# EAGLE library part IMU (library custom)
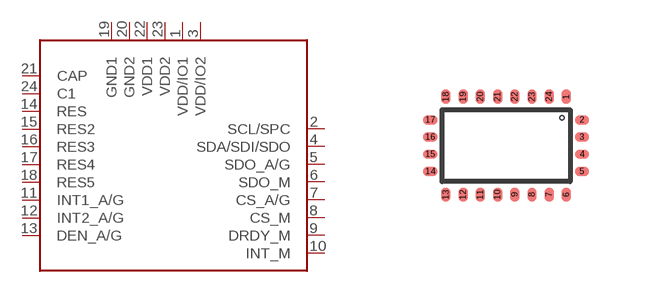
[diagram p0: symbol with the pads of 9AXIS_IMU; footprint 9AXIS_IMU]

Designator prefix IMU

## IMU (CREATOR: Harshini R; DIST: Digikey; DISTPN: 497-14946-1-ND)  [9AXIS_IMU]
1  VDD/IO1
2  SCL/SPC  pas
3  VDD/IO2
4  SDA/SDI/SDO  pas
5  SDO_A/G  out
6  SDO_M  out
7  CS_A/G  in
8  CS_M  in
9  DRDY_M  pas
10  INT_M  pas
11  INT1_A/G  pas
12  INT2_A/G  pas
13  DEN_A/G  pas
14  RES  pas
15  RES2  pas
16  RES3  pas
17  RES4  pas
18  RES5  pas
19  GND1  pas
20  GND2  pas
21  CAP  pas
22  VDD1  pwr
23  VDD2  pwr
24  C1  pas

## Footprint 9AXIS_IMU (pad centres in mm)
smd 0.23 x 0.35: 1 1.505,1.225; 6 1.505,-1.225; 7 1.075,-1.225; 8 0.645,-1.225; 9 0.215,-1.225; 10 -0.215,-1.225; 11 -0.645,-1.225; 12 -1.075,-1.225; 13 -1.505,-1.225; 18 -1.505,1.225; 19 -1.075,1.225; 20 -0.645,1.225; 21 -0.215,1.225; 22 0.215,1.225; 23 0.645,1.225; 24 1.075,1.225
smd 0.35 x 0.23: 2 1.895,0.645; 3 1.895,0.215; 4 1.895,-0.215; 5 1.895,-0.645; 14 -1.895,-0.645; 15 -1.895,-0.215; 16 -1.895,0.215; 17 -1.895,0.645